# EAGLE library part D*04-11SURKWA (library Display_LED)
Dual Digit Numeric Display - 7SEG, 0.4" Character size, RED, 16DIP, THT Datasheet-DA04-11SURKWA <https://www.kingbrightusa.com/images/catalog/SPEC/DA04-11SURKWA.pdf> Datasheet-DC04-11SURKWA <https://www.kingbrightusa.com/images/catalog/SPEC/DC04-11SURKWA.pdf>
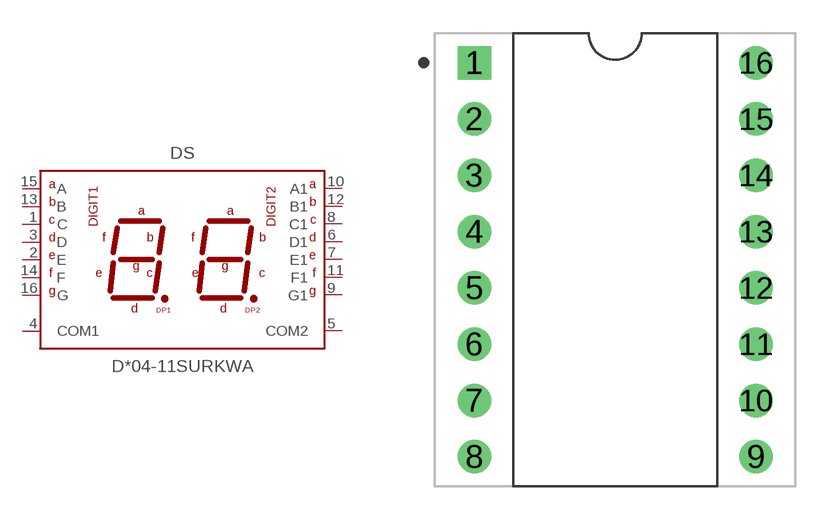
[diagram p2: symbol with the pads of D04-11SURKWA; footprint D04-11SURKWA]

Designator prefix DS

## DA04-11SURKWA (CATEGORY: DISPLAY; COLOR: Hyper Red (AlGaInP); CONFIGURATION: Common Anode; DESCRIPTION: 10 mm (0.4 inch) Dual Digit Numeric Display in Common Anode Configuration; DIGIT: Dual Digit; MANUFACTURER: Kingbright; MPN: DA04-11SURKWA; OPERATING_TEMP: -40°C to +85 °C; PART_STATUS: Active; ROHS_COMPLIANT: COMPLIANT; SERIES: -; SUB-CATEGORY: LED; THERMALLOSS: 0.075 W; TYPE: 7 Segment; VALUE: DA04-11SURKWA), DC04-11SURKWA (CATEGORY: DISPLAY; COLOR: Hyper Red (AlGaInP); CONFIGURATION: Common cathode; DESCRIPTION: 10 mm (0.4 inch) Dual Digit Numeric Display in Common Cathode Configuration; DIGIT: Dual Digit; MANUFACTURER: Kingbright; MPN: DC04-11SURKWA; OPERATING_TEMP: -40°C to +85 °C; PART_STATUS: Active; ROHS_COMPLIANT: COMPLIANT; SERIES: -; SUB-CATEGORY: LED; THERMALLOSS: 0.075 W; TYPE: 7 Segment; VALUE: DA04-11SURKWA)  [D04-11SURKWA]
1  C  pas
2  E  pas
3  D  pas
4  COM1  pas
5  COM2  pas
6  D1  pas
7  E1  pas
8  C1  pas
9  G1  pas
10  A1  pas
11  F1  pas
12  B1  pas
13  B  pas
14  F  pas
15  A  pas
16  G  pas

## Footprint D04-11SURKWA (pad centres in mm)
drill 1 square: 1 0,0
drill 1: 2 0,-2.54; 3 0,-5.08; 4 0,-7.62; 5 0,-10.16; 6 0,-12.7; 7 0,-15.24; 8 0,-17.78; 9 12.7,-17.78; 10 12.7,-15.24; 11 12.7,-12.7; 12 12.7,-10.16; 13 12.7,-7.62; 14 12.7,-5.08; 15 12.7,-2.54; 16 12.7,0